# EAGLE library part 750319924 (library Wurth_Power Magnetics_WE-POE)
WE-PoE Power over Ethernet Transformer Characteristics Flyback transformer designed for PoE PDs Input voltage: 36 V to 57 V Switching frequencies: 200–500 kHz Operating temperature: –40 ºC to +125 ºC Isolation voltage: 1.5 kVAC/1 min Different output powers and voltages available Applications PoE powered devices IP Phones WLAN Access Points Access control terminals Security cameras <https://www.we-online.com/components/media/o766301v209%20Family-POE.jpg> Details see: www.we-online.com/en/components/products/WE-POE <www.we-online.com/catalog/WE-POE/?utm_source=eagle_model&utm_medium=description_link&utm_campaign=eisos_eagle> Updated by Ella 2024-01-09 2024 (C) Wurth Elektronik
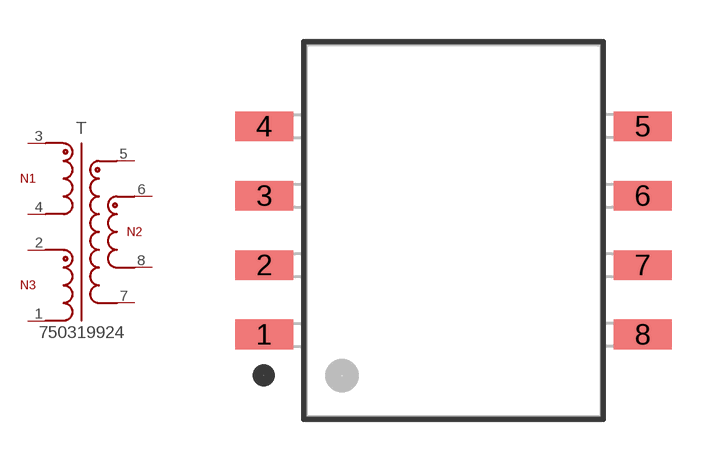
[diagram p12: symbol with the pads of WE-POE_EP10; footprint WE-POE_EP10]

Designator prefix T

## 750319924 (DATASHEET-URL: https://www.we-online.com/redexpert/spec/750319924?ae; IO1: 2.1A; L: 235uH; MOUNT: SMT; N: 9.5:1:3.5; PART-NUMBER: 750319924; SIZE: EP10; VALUE: 750319924; VERSION: Flyback; VIN: 40 - 57 V (DC); VO1: 3.3V; VT: 1500V(AC))  [WE-POE_EP10]
1  1  pas
2  2  pas
3  3  pas
4  4  pas
5  5  pas
6  6  pas
7  7  pas
8  8  pas

## Footprint WE-POE_EP10 (pad centres in mm)
WE-PoE Power over Ethernet Transformer EP10, SMT, 8Pins
smd 2.08 x 1.07: 1 -6.78,-3.735; 2 -6.78,-1.245; 3 -6.78,1.245; 4 -6.78,3.735; 5 6.78,3.735; 6 6.78,1.245; 7 6.78,-1.245; 8 6.78,-3.735